# Altium integrated library F143-MINI-KIT-902-FE-SMA_v1-0-2b.IntLib: 12 symbols
Pins are listed as number, name and electrical type; pins without a type are passive.

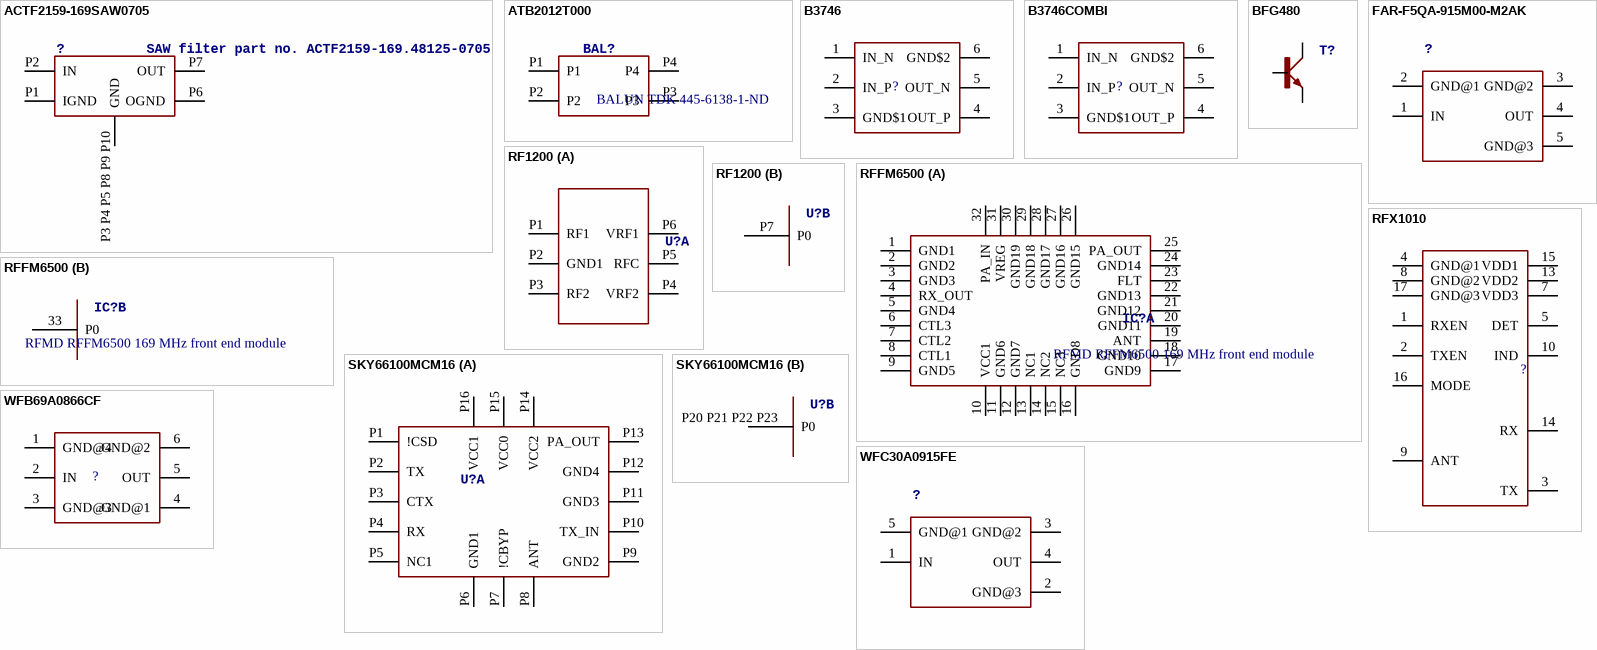
[diagram p0: symbols ACTF2159-169SAW0705 to WFC30A0915FE]

## ACTF2159-169SAW0705
designator ?, comment SAW filter part no. ACTF2159-169.48125-0705
footprint SAW0705
pins: P1 IGND, P2 IN, P3 P4 P5 P8 P9 P10 GND (power), P6 OGND, P7 OUT

## ATB2012T000
designator BAL?, comment BALUN TDK 445-6138-1-ND
footprint ATB2012
pins: P1, P2, P3, P4

## B3746
designator ?
footprint DCC6E
pins: 1 IN_N, 2 IN_P, 3 GND$1, 4 OUT_P, 5 OUT_N, 6 GND$2

## B3746COMBI
designator ?
footprint DCC6_COMBI
pins: 1 IN_N, 2 IN_P, 3 GND$1, 4 OUT_P, 5 OUT_N, 6 GND$2

## BFG480
designator T?
footprint SOT343
pins: 1 E, 2 B, 3 E@1, 4 C

## FAR-F5QA-915M00-M2AK
designator ?
footprint SAW_1.1X0.9X0.5
pins: 1 IN, 2 GND@1, 3 GND@2, 4 OUT, 5 GND@3

## RF1200
designator U?
footprint QFN6
part A pins: P1 RF1, P2 GND1, P3 RF2, P4 VRF2, P5 RFC, P6 VRF1
part B pins: P7 P0 (power)

## RFFM6500
designator IC?, comment RFMD RFFM6500 169 MHz front end module
footprint QFN32_6X6
part A pins: 1 GND1 (power), 2 GND2 (power), 3 GND3 (power), 4 RX_OUT, 5 GND4 (power), 6 CTL3, 7 CTL2, 8 CTL1, 9 GND5, 10 VCC1 (power), 11 GND6 (power), 12 GND7 (power), 13 NC1, 14 NC2, 15 NC3, 16 GND8 (power), 17 GND9 (power), 18 GND10 (power), 19 ANT, 20 GND11 (power), 21 GND12 (power), 22 GND13 (power), 23 FLT, 24 GND14 (power), 25 PA_OUT, 26 GND15 (power), 27 GND16 (power), 28 GND17 (power), 29 GND18 (power), 30 GND19 (power), 31 VREG, 32 PA_IN
part B pins: 33 P0 (power)

## RFX1010
designator ?
footprint QFN16_TH
pins: 1 RXEN, 2 TXEN, 3 TX, 4 GND@1, 5 DET, 7 VDD3, 8 GND@2, 9 ANT, 10 IND, 13 VDD2, 14 RX, 15 VDD1, 16 MODE, 17 GND@3

## SKY66100MCM16
designator U?
footprint MCM16_4X4
part A pins: P1 !CSD, P2 TX, P3 CTX, P4 RX, P5 NC1, P6 GND1 (power), P7 !CBYP, P8 ANT, P9 GND2 (power), P10 TX_IN, P11 GND3 (power), P12 GND4 (power), P13 PA_OUT, P14 VCC2 (oe), P15 VCC0 (oe), P16 VCC1 (oe)
part B pins: P20 P21 P22 P23 P0 (power)

## WFB69A0866CF
designator ?
footprint DCC6E
pins: 1 GND@4, 2 IN, 3 GND@3, 4 GND@1, 5 OUT, 6 GND@2

## WFC30A0915FE
designator ?
footprint SAW_1.4X1.1X0.5
pins: 1 IN, 2 GND@3, 3 GND@2, 4 OUT, 5 GND@1